# Altium footprint library cPCI-SPE-METRAL4000_header.PcbLib: 1 footprints
Each footprint in its own frame and in the unit in brackets; x right, y up, seen from the top. Pads: shape width x height; smd on the part's side, far side on the other; paste and mask are expansions set on the pad; w line width, h text height; cw(c..) or ccw(c..) is an arc to the next point about the centre after c.
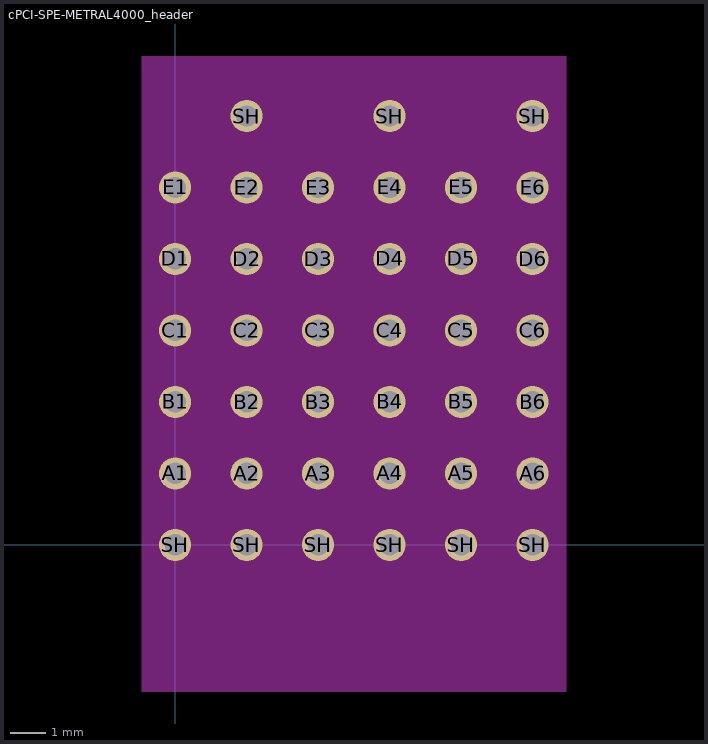
[diagram p0: the footprint, top view; thin cyan lines are the x and y axes]

## cPCI-SPE-METRAL4000_header [mm]
pads (39):
  round 0.9 hole 0.6: A1(0,2) A2(2,2) A3(4,2) A4(6,2) A5(8,2) A6(10,2) B1(0,4) B2(2,4) B3(4,4) B4(6,4) B5(8,4) B6(10,4) C1(0,6) C2(2,6) C3(4,6) C4(6,6) C5(8,6) C6(10,6) D1(0,8) D2(2,8) D3(4,8) D4(6,8) D5(8,8) D6(10,8) E1(0,10) E2(2,10) E3(4,10) E4(6,10) E5(8,10) E6(10,10) SH(0,0) SH(2,0) SH(2,12) SH(4,0) SH(6,0) SH(6,12) SH(8,0) SH(10,0) SH(10,12)
Top Layer keep-out:
  rectangle: -0.94,-4.121 10.947,13.684
3D body: height 17, standoff -2.7, extent -0.931,-4.114 10.949,13.686